# Altium footprint library IR958-8C.PcbLib: 1 footprints
Each footprint in its own frame and in the unit in brackets; x right, y up, seen from the top. Pads: shape width x height; smd on the part's side, far side on the other; paste and mask are expansions set on the pad; w line width, h text height; cw(c..) or ccw(c..) is an arc to the next point about the centre after c.
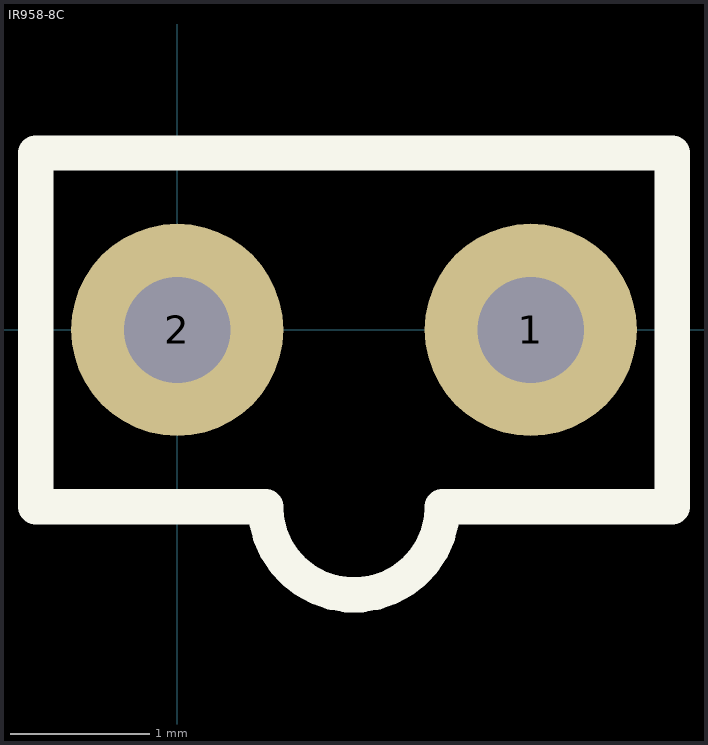
[diagram p0: the footprint, top view; thin cyan lines are the x and y axes]

## IR958-8C [mil]
height 230
pads (2):
  round 60 hole 30: 1(100,0) 2(0,0)
Top Overlay:
  lines w10: -40,-50 -40,50 50,50 140,50 140,-50 75,-50 cw(c50,-50) 25,-50 -40,-50